# Altium schematic symbol library power_switch.SchLib: 3 symbols
Pins are listed as number, name and electrical type; pins without a type are passive.

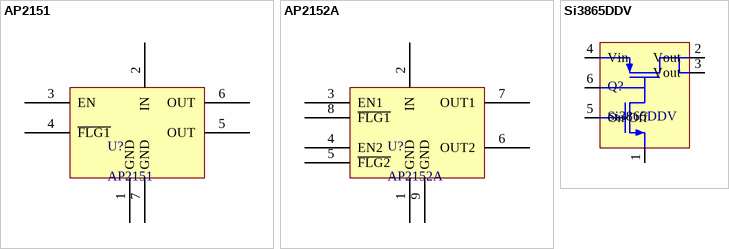
[diagram p0: symbols AP2151 to Si3865DDV]

## AP2151
designator U?
0.5A SINGLE CHANNEL CURRENT-LIMITED  POWER SWITCH WITH OUTPUT DISCHARGE; Supplier 1: Digi-Key; Supplier Part Number 1: AP2151FMG-7DICT-ND
footprint U-DFN2018-6
pins: 1 GND, 2 IN, 3 EN, 4 ~{FLG1}, 5 OUT, 6 OUT, 7 GND

## AP2152A
designator U?
0.5A DUAL CHANNEL CURRENT-LIMITED  POWER SWITCH WITH OUTPUT DISCHARGE; Supplier 1: Digi-Key; Supplier Part Number 1: AP2152AFGEG-7DICT-ND
footprint U-DFN3030-8
pins: 1 GND, 2 IN, 3 EN1, 4 EN2, 5 ~{FLG2}, 6 OUT2, 7 OUT1, 8 ~{FLG1}, 9 GND

## Si3865DDV
designator Q?
Load Switch; Supplier 1: Digi-Key; Supplier Part Number 1: SI3865DDV-T1-GE3CT-ND
footprint TSOT-23 (SOT23, 6-Leads, Body 2.90x2.45mm, Pitch 0.95mm, IPC Medium Density)
pins: 1, 2 Vout, 3 Vout, 4 Vin, 5 On/Off, 6